# Altium footprint library TE_CONN_T9AS.PcbLib: 1 footprints
Each footprint in its own frame and in the unit in brackets; x right, y up, seen from the top. Pads: shape width x height; smd on the part's side, far side on the other; paste and mask are expansions set on the pad; w line width, h text height; cw(c..) or ccw(c..) is an arc to the next point about the centre after c.
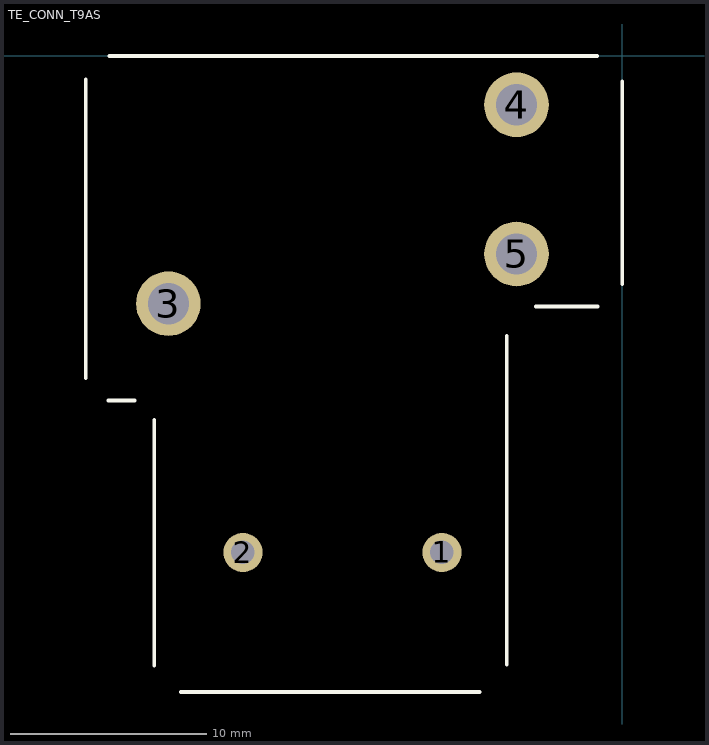
[diagram p0: the footprint, top view; thin cyan lines are the x and y axes]

## TE_CONN_T9AS [mm] "T9AS/V"
pads (5):
  round 2 hole 1.2: 1(-9.21,-25.36) 2(-19.37,-25.36)
  round 3.3 hole 2.1: 3(-23.18,-12.66) 4(-5.4,-2.5) 5(-5.4,-10.12)
Top Overlay:
  lines w0.2: -27.4,-16.45 -27.4,-1.2 ; -26.25,-17.6 -24.9,-17.6 ; -26.2,0 -1.3,0 ; -23.9,-31.15 -23.9,-18.6 ; -22.55,-32.5 -7.3,-32.5 ; -5.9,-31.1 -5.9,-14.3 ; -4.4,-12.8 -1.25,-12.8 ; 0,-11.65 0,-1.3
3D body: height 20.4, standoff 0, extent -27.4,-32.5 0,0